# Altium schematic symbol library NG_Active.SchLib: 16 symbols
Pins are listed as number, name and electrical type; pins without a type are passive.

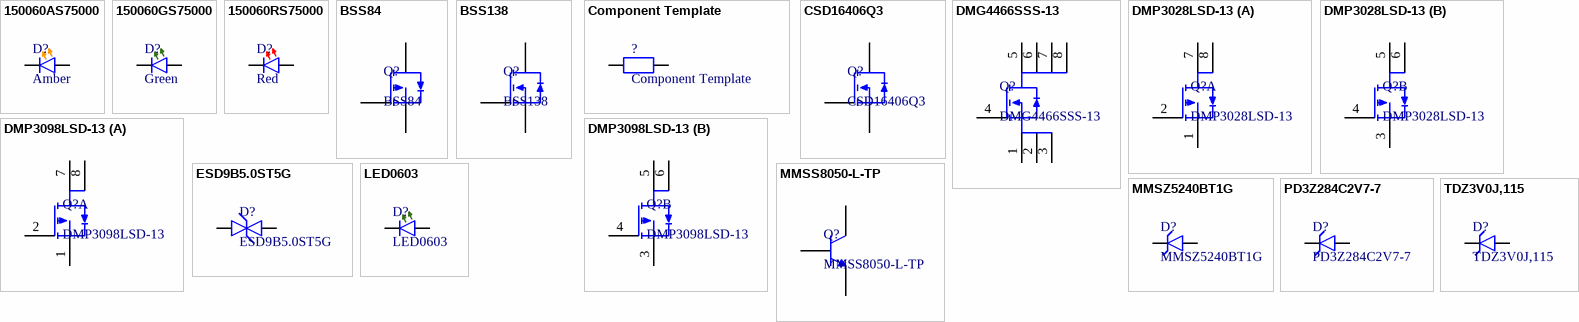
[diagram p0: symbols 150060AS75000 to TDZ3V0J,115]

## 150060AS75000
designator D?, comment Amber
LED Amber, 2V, 30mA; MFR: Würth Elektronik; MFRN: 150060AS75000; SPN: 710-150060AS75000; Checked: Yes; Footprint: 0603; Supplier: Mouser; Link: https://hr.mouser.com/ProductDetail/Wurth-Elektronik/150060AS75000?qs=d0WKAl%252BL4KbvMBYryeof0Q%3D%3D
footprint LED0603 (0603 Footprint for Light Emitting diodes)
pins: 1, 2

## 150060GS75000
designator D?, comment Green
LED Green, 2.1V, 20mA; MFR: Wurth Elektronik; MFRN: 150060GS75000; SPN: 710-150060GS75000; Checked: Yes; Footprint: 0603; Supplier: Mouser; Link: https://hr.mouser.com/ProductDetail/Wurth-Elektronik/150060GS75000?qs=LlUlMxKIyB0UYkq5lDO8nA%3D%3D
footprint LED0603 (0603 Footprint for Light Emitting diodes)
pins: 1, 2

## 150060RS75000
designator D?, comment Red
LED Red, 2.3V, 20mA; MFR: Würth Elektronik; MFRN: 150060RS75000; SPN: 710-150060RS75000; Checked: Yes; Footprint: 0603; Supplier: Mouser; Link: https://hr.mouser.com/ProductDetail/Wurth-Elektronik/150060RS75000?qs=LlUlMxKIyB3QnmZ3fw%2FVCA%3D%3D
footprint LED0603 (0603 Footprint for Light Emitting diodes)
pins: 1, 2

## BSS84
designator Q?
MOSFET, P-CH, 50V, 130mA; MFR: onsemi; SPN: 512-BSS84; Checked: Yes; Footprint: SOT23-3; Supplier: Mouser; MFRN: BSS84; Link: https://hr.mouser.com/ProductDetail/onsemi-Fairchild/BSS84?qs=FOlmdCx%252BAA0e83h5MpSc0g%3D%3D
footprint SOT190P240X290-3 (Generic description)
pins: 1 G, 2 S, 3 D

## BSS138
designator Q?
MOSFET, N-CH, 50V, 220mA; MFR: onsemi; SPN: 512-BSS138; Checked: Yes; Footprint: SOT23-3; Supplier: Mouser; MFRN: BSS138; Link: https://hr.mouser.com/ProductDetail/onsemi-Fairchild/BSS138?qs=HK%252BeIG1iaahCeqBvjB4arg%3D%3D
footprint SOT190P240X290-3 (Generic description)
pins: 1 G, 2 S, 3 D

## Component Template
designator ?
Generic Description; Checked: No; Footprint: ?; MFR: ?; Supplier: Mouser; SPN: ?; MFRN: ?; Link: *
pins: 1, 2

## CSD16406Q3
designator Q?
MOSFET, N-CH, 25V, 60A; MFR: Texas Instruments; SPN: 595-CSD16406Q3; Checked: Yes; Footprint: VSON-CLIP-8; Supplier: Mouser; MFRN: CSD16406Q3; Link: https://hr.mouser.com/ProductDetail/Texas-Instruments/CSD16406Q3?qs=SuDOdTVxq4Wogv4PDdDFZA%3D%3D
footprint TRANS_CSD16406Q3 (VSON-CLIP)
pins: 1 S, 2 D, 3 G

## DMG4466SSS-13
designator Q?
MOSFET, N-CH, 30V, 10A; MFR: Diodes Incorporated; SPN: 621-DMG4466SSS-13; Checked: Yes; Footprint: SOIC-8; Supplier: Mouser; MFRN: DMG4466SSS-13; Link: https://hr.mouser.com/ProductDetail/Diodes-Incorporated/DMG4466SSS-13?qs=sJ%252BpcIzCtBiZrDaWKxeDlA%3D%3D
footprint SOIC127P610X175-8 (Generic description)
pins: 1 S, 2 S, 3 S, 4 G, 5 D, 6 D, 7 D, 8 D

## DMP3028LSD-13
designator Q?
MOSFET, 2P-CH, 30V, 6A; MFR: Diodes Incorporated; SPN: 621-DMP3028LSD-13; Checked: Yes; Footprint: SOIC-8; Supplier: Mouser; MFRN: DMP3028LSD-13; Link: https://hr.mouser.com/ProductDetail/Diodes-Incorporated/DMP3028LSD-13?qs=HXx4m3XcTe1Oo5qgV%252BCezQ%3D%3D
footprint SOIC127P620X175-8 (Generic description)
part A pins: 1 S1 (power), 2 G1 (power), 7 D1 (power), 8 D1 (power)
part B pins: 3 S2 (power), 4 G2 (power), 5 D2 (power), 6 D2 (power)

## DMP3098LSD-13
designator Q?
MOSFET, 2P-CH, 30V, 4.4A; MFR: Diodes Incorporated; SPN: 621-DMP3098LSD-13; Checked: Yes; Footprint: SOIC-8; Supplier: Mouser; MFRN: DMP3098LSD-13; Link: https://hr.mouser.com/ProductDetail/Diodes-Incorporated/DMP3098LSD-13?qs=oUsD4qhOtFxafARAi3NzqQ%3D%3D
footprint SOIC127P620X175-8 (Generic description)
part A pins: 1 S1 (power), 2 G1 (power), 7 D1 (power), 8 D1 (power)
part B pins: 3 S2 (power), 4 G2 (power), 5 D2 (power), 6 D2 (power)

## ESD9B5.0ST5G
designator D?
TVS Diode 5VWM; MFR: onsemi; SPN: 863-ESD9B5.0ST5G; Checked: Yes; Footprint: SOD-923; Supplier: Mouser; MFRN: ESD9B5.0ST5G; Link: https://hr.mouser.com/ProductDetail/onsemi/ESD9B5.0ST5G?qs=HL4IEvuNMQqfrGPZiLZXfQ%3D%3D
footprint DIOC8060X37 (SOD-923)
pins: 1, 2

## LED0603
designator D?
Generic Description; MFR: Wurth Elektronik; MFRN: 150060GS75000; SPN: 710-150060GS75000; Checked: No; Footprint: 0603; Supplier: Mouser; Link: https://hr.mouser.com/ProductDetail/Wurth-Elektronik/150060GS75000?qs=LlUlMxKIyB0UYkq5lDO8nA%3D%3D
footprint LED0603 (0603 Footprint for Light Emitting diodes)
pins: 1, 2

## MMSS8050-L-TP
designator Q?
BJT, NPN, 25V, 1.5A; MFR: Micro Commercial Components (MCC); SPN: 833-MMSS8050-L-TP; Checked: No; Footprint: SOT23-3; Supplier: Mouser; MFRN: MMSS8050-L-TP; Link: https://hr.mouser.com/ProductDetail/Micro-Commercial-Components-MCC/MMSS8050-L-TP?qs=FaVZESsvgnebflbaqJWJVQ%3D%3D
footprint SOT190P240X290-3 (Generic description)
pins: 1 B, 2 E, 3 C

## MMSZ5240BT1G
designator D?
Zener Dioode, 10V, 500mW; MFR: onsemi; SPN: 863-MMSZ5240BT1G; Checked: Yes; Footprint: SOD-123-2; Supplier: Mouser; MFRN: MMSZ5240BT1G; Link: https://hr.mouser.com/ProductDetail/onsemi/MMSZ5240BT1G?qs=P4IOph%252Bbot9clcYADZoEXg%3D%3D
footprint SODFL368160X117 (SOD-123-3)
pins: 1, 2

## PD3Z284C2V7-7
designator D?
Zener Dioode, 2.7V, 500mW; MFR: Diodes Incorporated; SPN: 621-PD3Z284C2V7-7; Checked: Yes; Footprint: SOD323F; Supplier: Mouser; MFRN: PD3Z284C2V7-7; Link: https://hr.mouser.com/ProductDetail/Diodes-Incorporated/PD3Z284C2V7-7?qs=DwnLFiA34IIgMeeWvry9Aw%3D%3D
footprint PowerDI323
pins: 1, 2

## TDZ3V0J,115
designator D?
Zener Dioode, 3V, 500mW; MFR: Nexperia USA Inc.; SPN: 1727-1756-2-ND; Checked: Yes; Footprint: SOD323F; Supplier: Mouser; MFRN: TDZ3V0J,115; Link: *
footprint SODFL250125X80 (SOD323F)
pins: 1, 2